# Altium footprint library WCAP-FTXX.PcbLib: 72 footprints (part 2 of 5)
Each footprint in its own frame and in the unit in brackets; x right, y up, seen from the top. Pads: shape width x height; smd on the part's side, far side on the other; paste and mask are expansions set on the pad; w line width, h text height; cw(c..) or ccw(c..) is an arc to the next point about the centre after c.
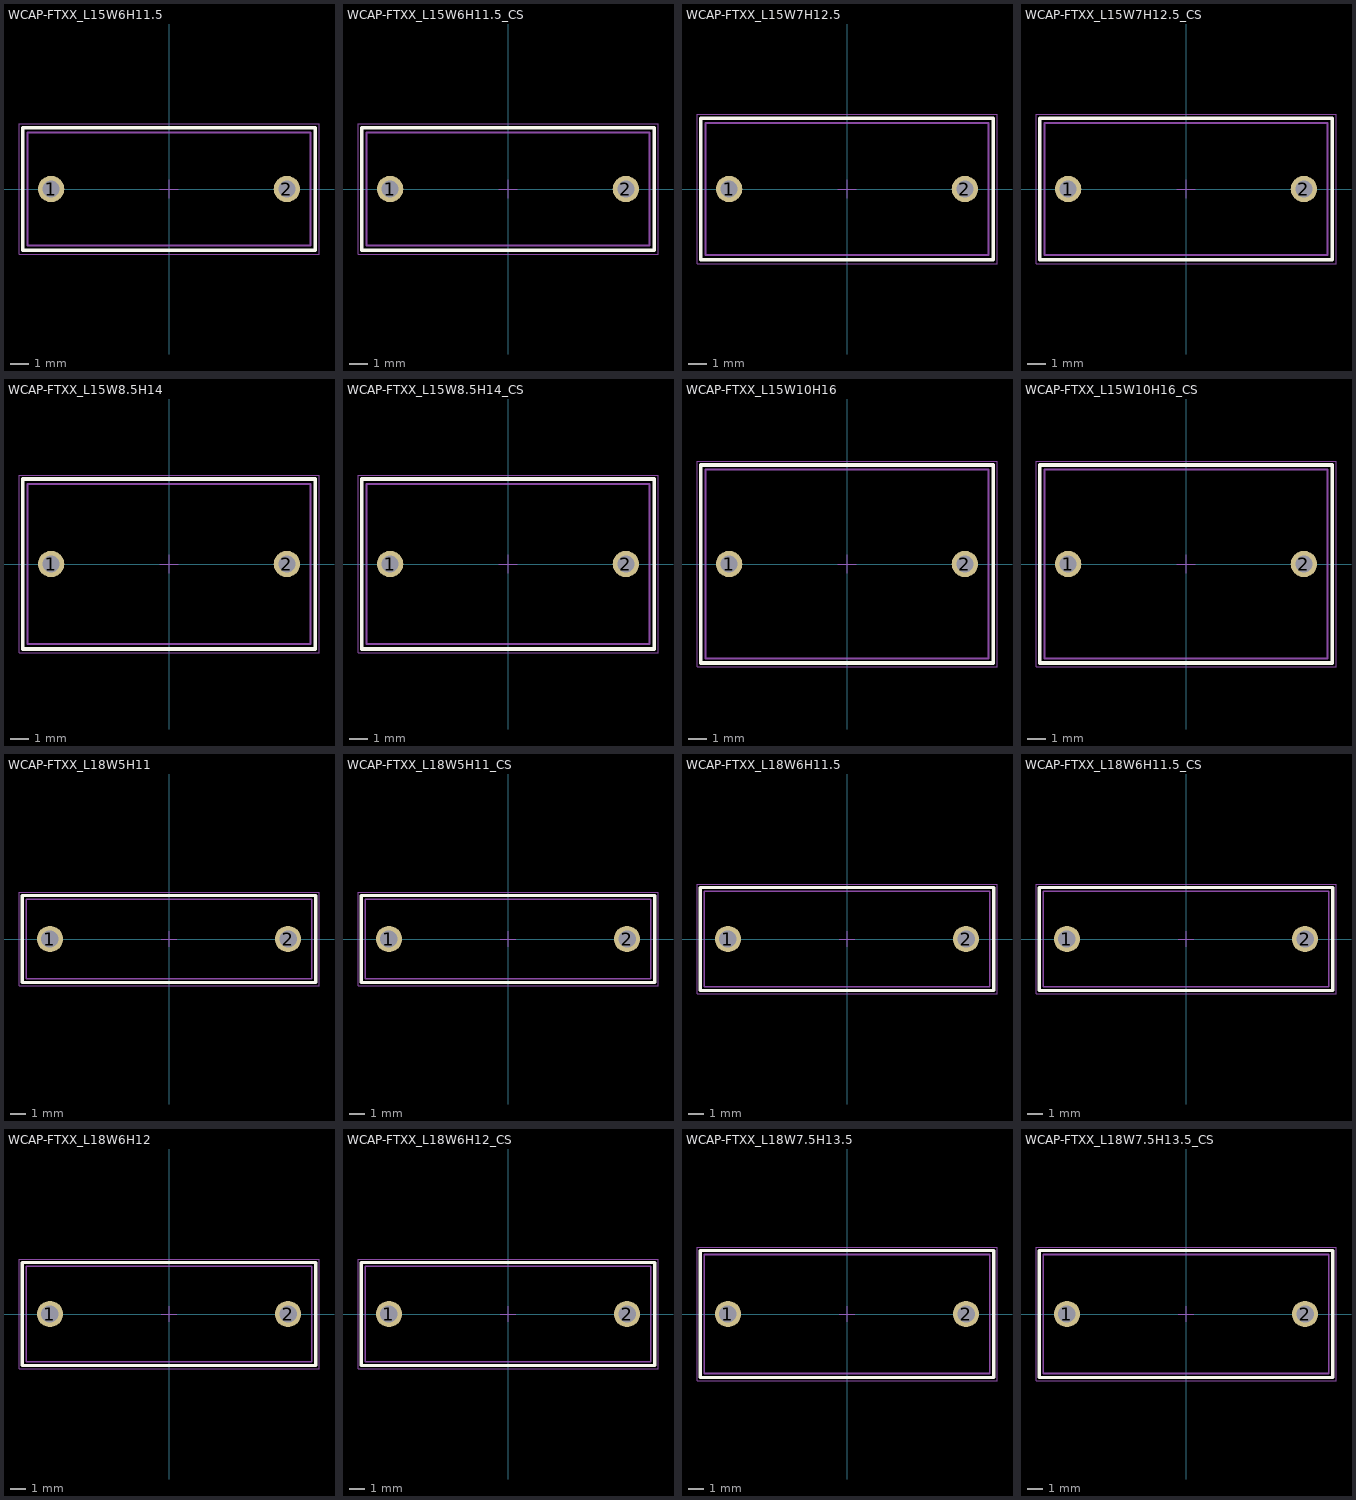
[diagram p1: the footprints below, top view; thin cyan lines are the x and y axes]

## WCAP-FTXX_L15W6H11.5 [mm] "Film Capacitors, 15x6x11.5mm"
height 11.5
pads (2):
  round 1.4 hole 0.9: 1(-6.25,0) 2(6.25,0)
Top Overlay:
  lines w0.2: -7.75,-3.25 -7.75,3.25 7.75,3.25 7.75,-3.25 -7.75,-3.25
Top Designator:
  text ".Designator" at -7.498,-0.5 h1.5
Top Component Outline:
  lines w0.1: -7.5,-3 -7.5,3 7.5,3 7.5,-3 -7.5,-3
Top Courtyard:
  lines w0.05: -7.95,-3.45 -7.95,3.45 7.95,3.45 7.95,-3.45 -7.95,-3.45
Top Component Center:
  lines w0.05: -0.5,0 0.5,0 ; 0,-0.5 0,0.5
3D body "12,5x15x11,5x6.stp": height 11.55, standoff -19.95, extent -7.5,-3 7.5,3

## WCAP-FTXX_L15W6H11.5_CS [mm] "Film Capacitors, 15x6x11.5mm"
height 11.5
pads (2):
  round 1.4 hole 0.9: 1(-6.25,0) 2(6.25,0)
Top Overlay:
  lines w0.2: -7.75,-3.25 -7.75,3.25 7.75,3.25 7.75,-3.25 -7.75,-3.25
Top Designator:
  text ".Designator" at -7.498,-0.5 h1.5
Top Component Outline:
  lines w0.1: -7.5,-3 -7.5,3 7.5,3 7.5,-3 -7.5,-3
Top Courtyard:
  lines w0.05: -7.95,-3.45 -7.95,3.45 7.95,3.45 7.95,-3.45 -7.95,-3.45
Top Component Center:
  lines w0.05: -0.5,0 0.5,0 ; 0,-0.5 0,0.5
3D body "12,5x15x11,5x6_CS.stp": height 11.55, standoff -3.95, extent -7.5,-3 7.5,3

## WCAP-FTXX_L15W7H12.5 [mm] "Film Capacitors, 15x7x12.5mm"
height 12.5
pads (2):
  round 1.4 hole 0.9: 1(-6.25,0) 2(6.25,0)
Top Overlay:
  lines w0.2: -7.75,-3.75 -7.75,3.75 7.75,3.75 7.75,-3.75 -7.75,-3.75
Top Designator:
  text ".Designator" at -7.498,-0.5 h1.5
Top Component Outline:
  lines w0.1: -7.5,-3.5 -7.5,3.5 7.5,3.5 7.5,-3.5 -7.5,-3.5
Top Courtyard:
  lines w0.05: -7.95,-3.95 -7.95,3.95 7.95,3.95 7.95,-3.95 -7.95,-3.95
Top Component Center:
  lines w0.05: -0.5,0 0.5,0 ; 0,-0.5 0,0.5
3D body "12,5x15x12,5x7.stp": height 12.55, standoff -19.95, extent -7.5,-3.5 7.5,3.5

## WCAP-FTXX_L15W7H12.5_CS [mm] "Film Capacitors, 15x7x12.5mm"
height 12.5
pads (2):
  round 1.4 hole 0.9: 1(-6.25,0) 2(6.25,0)
Top Overlay:
  lines w0.2: -7.75,-3.75 7.75,-3.75 7.75,3.75 -7.75,3.75 -7.75,-3.75
Top Designator:
  text ".Designator" at -7.498,-0.5 h1.5
Top Component Outline:
  lines w0.1: -7.5,-3.5 7.5,-3.5 7.5,3.5 -7.5,3.5 -7.5,-3.5
Top Courtyard:
  lines w0.05: -7.95,-3.95 7.95,-3.95 7.95,3.95 -7.95,3.95 -7.95,-3.95
Top Component Center:
  lines w0.05: -0.5,0 0.5,0 ; 0,-0.5 0,0.5
3D body "12,5x15x12,5x7_CS.stp": height 12.55, standoff -3.95, extent -7.5,-3.5 7.5,3.5

## WCAP-FTXX_L15W8.5H14 [mm] "Film Capacitors, 15x8.5x14mm"
height 14
pads (2):
  round 1.4 hole 0.9: 1(-6.25,0) 2(6.25,0)
Top Overlay:
  lines w0.2: -7.75,-4.5 -7.75,4.5 7.75,4.5 7.75,-4.5 -7.75,-4.5
Top Designator:
  text ".Designator" at -7.498,-0.5 h1.5
Top Component Outline:
  lines w0.1: -7.5,-4.25 7.5,-4.25 7.5,4.25 -7.5,4.25 -7.5,-4.25
Top Courtyard:
  lines w0.05: -7.95,-4.7 -7.95,4.7 7.95,4.7 7.95,-4.7 -7.95,-4.7
Top Component Center:
  lines w0.05: -0.5,0 0.5,0 ; 0,-0.5 0,0.5
3D body "12,5x15x14x8,5.stp": height 14.05, standoff -19.95, extent -7.5,-4.25 7.5,4.25

## WCAP-FTXX_L15W8.5H14_CS [mm] "Film Capacitors, 15x8.5x14mm"
height 14
pads (2):
  round 1.4 hole 0.9: 1(-6.25,0) 2(6.25,0)
Top Overlay:
  lines w0.2: -7.75,-4.5 -7.75,4.5 7.75,4.5 7.75,-4.5 -7.75,-4.5
Top Designator:
  text ".Designator" at -7.498,-0.5 h1.5
Top Component Outline:
  lines w0.1: -7.5,-4.25 7.5,-4.25 7.5,4.25 -7.5,4.25 -7.5,-4.25
Top Courtyard:
  lines w0.05: -7.95,-4.7 -7.95,4.7 7.95,4.7 7.95,-4.7 -7.95,-4.7
Top Component Center:
  lines w0.05: -0.5,0 0.5,0 ; 0,-0.5 0,0.5
3D body "12,5x15x14x8,5_CS.stp": height 14.05, standoff -3.95, extent -7.5,-4.25 7.5,4.25

## WCAP-FTXX_L15W10H16 [mm] "Film Capacitors, 15x10x16mm"
height 16
pads (2):
  round 1.4 hole 0.9: 1(-6.25,0) 2(6.25,0)
Top Overlay:
  lines w0.2: -7.75,-5.25 -7.75,5.25 7.75,5.25 7.75,-5.25 -7.75,-5.25
Top Designator:
  text ".Designator" at -7.498,-0.5 h1.5
Top Component Outline:
  lines w0.1: -7.5,-5 7.5,-5 7.5,5 -7.5,5 -7.5,-5
Top Courtyard:
  lines w0.05: -7.95,-5.45 -7.95,5.45 7.95,5.45 7.95,-5.45 -7.95,-5.45
Top Component Center:
  lines w0.05: -0.5,0 0.5,0 ; 0,-0.5 0,0.5
3D body "12,5x15x16x10.stp": height 16.05, standoff -19.95, extent -7.5,-5 7.5,5

## WCAP-FTXX_L15W10H16_CS [mm] "Film Capacitors, 15x10x16mm"
height 16
pads (2):
  round 1.4 hole 0.9: 1(-6.25,0) 2(6.25,0)
Top Overlay:
  lines w0.2: -7.75,-5.25 7.75,-5.25 7.75,5.25 -7.75,5.25 -7.75,-5.25
Top Designator:
  text ".Designator" at -7.498,-0.5 h1.5
Top Component Outline:
  lines w0.1: -7.5,-5 -7.5,5 7.5,5 7.5,-5 -7.5,-5
Top Courtyard:
  lines w0.05: -7.95,-5.45 7.95,-5.45 7.95,5.45 -7.95,5.45 -7.95,-5.45
Top Component Center:
  lines w0.05: -0.5,0 0.5,0 ; 0,-0.5 0,0.5
3D body "12,5x15x16x10_CS.stp": height 16.05, standoff -3.95, extent -7.5,-5 7.5,5

## WCAP-FTXX_L18W5H11 [mm] "Film Capacitors, 18x5x11mm"
height 11
pads (2):
  round 1.65 hole 1.1: 1(-7.5,0) 2(7.5,0)
Top Overlay:
  lines w0.2: -9.25,-2.75 -9.25,2.75 9.25,2.75 9.25,-2.75 -9.25,-2.75
Top Designator:
  text ".Designator" at -7.498,-0.5 h1.5
Top Component Outline:
  lines w0.1: -9,-2.5 -9,2.5 9,2.5 9,-2.5 -9,-2.5
Top Courtyard:
  lines w0.05: -9.45,-2.95 -9.45,2.95 9.45,2.95 9.45,-2.95 -9.45,-2.95
Top Component Center:
  lines w0.05: -0.5,0 0.5,0 ; 0,-0.5 0,0.5
3D body "15x18x11x5.stp": height 11.05, standoff -19.95, extent -9,-2.5 9,2.5

## WCAP-FTXX_L18W5H11_CS [mm] "Film Capacitors, 18x5x11mm"
height 11
pads (2):
  round 1.65 hole 1.1: 1(-7.5,0) 2(7.5,0)
Top Overlay:
  lines w0.2: -9.25,-2.75 9.25,-2.75 9.25,2.75 -9.25,2.75 -9.25,-2.75
Top Designator:
  text ".Designator" at -7.498,-0.5 h1.5
Top Component Outline:
  lines w0.1: -9,-2.5 9,-2.5 9,2.5 -9,2.5 -9,-2.5
Top Courtyard:
  lines w0.05: -9.45,-2.95 9.45,-2.95 9.45,2.95 -9.45,2.95 -9.45,-2.95
Top Component Center:
  lines w0.05: -0.5,0 0.5,0 ; 0,-0.5 0,0.5
3D body "15x18x11x5_CS.stp": height 11.05, standoff -3.95, extent -9,-2.5 9,2.5

## WCAP-FTXX_L18W6H11.5 [mm] "Film Capacitors, 18x6x11.5mm"
height 11.5
pads (2):
  round 1.65 hole 1.1: 1(-7.5,0) 2(7.5,0)
Top Overlay:
  lines w0.2: -9.25,-3.25 9.25,-3.25 9.25,3.25 -9.25,3.25 -9.25,-3.25
Top Designator:
  text ".Designator" at -7.498,-0.5 h1.5
Top Component Outline:
  lines w0.1: -9,-3 -9,3 9,3 9,-3 -9,-3
Top Courtyard:
  lines w0.05: -9.45,-3.45 9.45,-3.45 9.45,3.45 -9.45,3.45 -9.45,-3.45
Top Component Center:
  lines w0.05: -0.5,0 0.5,0 ; 0,-0.5 0,0.5
3D body "15x18x11,5x6.stp": height 11.55, standoff -19.95, extent -9,-3 9,3

## WCAP-FTXX_L18W6H11.5_CS [mm] "Film Capacitors, 18x6x11.5mm"
height 11.5
pads (2):
  round 1.65 hole 1.1: 1(-7.5,0) 2(7.5,0)
Top Overlay:
  lines w0.2: -9.25,-3.25 9.25,-3.25 9.25,3.25 -9.25,3.25 -9.25,-3.25
Top Designator:
  text ".Designator" at -7.498,-0.5 h1.5
Top Component Outline:
  lines w0.1: -9,-3 -9,3 9,3 9,-3 -9,-3
Top Courtyard:
  lines w0.05: -9.45,-3.45 9.45,-3.45 9.45,3.45 -9.45,3.45 -9.45,-3.45
Top Component Center:
  lines w0.05: -0.5,0 0.5,0 ; 0,-0.5 0,0.5
3D body "15x18x11,5x6_CS.stp": height 11.55, standoff -3.95, extent -9,-3 9,3

## WCAP-FTXX_L18W6H12 [mm] "Film Capacitors, 18x6x12mm"
height 12
pads (2):
  round 1.65 hole 1.1: 1(-7.5,0) 2(7.5,0)
Top Overlay:
  lines w0.2: -9.25,-3.25 -9.25,3.25 9.25,3.25 9.25,-3.25 -9.25,-3.25
Top Designator:
  text ".Designator" at -7.498,-0.5 h1.5
Top Component Outline:
  lines w0.1: -9,-3 9,-3 9,3 -9,3 -9,-3
Top Courtyard:
  lines w0.05: -9.45,-3.45 -9.45,3.45 9.45,3.45 9.45,-3.45 -9.45,-3.45
Top Component Center:
  lines w0.05: -0.5,0 0.5,0 ; 0,-0.5 0,0.5
3D body "15x18x12x6.stp": height 12.05, standoff -19.95, extent -9,-3 9,3

## WCAP-FTXX_L18W6H12_CS [mm] "Film Capacitors, 18x6x12mm"
height 12
pads (2):
  round 1.65 hole 1.1: 1(-7.5,0) 2(7.5,0)
Top Overlay:
  lines w0.2: -9.25,-3.25 9.25,-3.25 9.25,3.25 -9.25,3.25 -9.25,-3.25
Top Designator:
  text ".Designator" at -7.498,-0.5 h1.5
Top Component Outline:
  lines w0.1: -9,-3 -9,3 9,3 9,-3 -9,-3
Top Courtyard:
  lines w0.05: -9.45,-3.45 9.45,-3.45 9.45,3.45 -9.45,3.45 -9.45,-3.45
Top Component Center:
  lines w0.05: -0.5,0 0.5,0 ; 0,-0.5 0,0.5
3D body "15x18x12x6_CS.stp": height 12.05, standoff -3.95, extent -9,-3 9,3

## WCAP-FTXX_L18W7.5H13.5 [mm] "Film Capacitors, 18x7.5x13.5mm"
height 13.5
pads (2):
  round 1.65 hole 1.1: 1(-7.5,0) 2(7.5,0)
Top Overlay:
  lines w0.2: -9.25,-4 -9.25,4 9.25,4 9.25,-4 -9.25,-4
Top Designator:
  text ".Designator" at -7.498,-0.5 h1.5
Top Component Outline:
  lines w0.1: -9,-3.75 -9,3.75 9,3.75 9,-3.75 -9,-3.75
Top Courtyard:
  lines w0.05: -9.45,-4.2 -9.45,4.2 9.45,4.2 9.45,-4.2 -9.45,-4.2
Top Component Center:
  lines w0.05: -0.5,0 0.5,0 ; 0,-0.5 0,0.5
3D body "15x18x13,5x7,5.stp": height 13.55, standoff -19.95, extent -9,-3.75 9,3.75

## WCAP-FTXX_L18W7.5H13.5_CS [mm] "Film Capacitors, 18x7.5x13.5mm"
height 13.5
pads (2):
  round 1.65 hole 1.1: 1(-7.5,0) 2(7.5,0)
Top Overlay:
  lines w0.2: -9.25,-4 9.25,-4 9.25,4 -9.25,4 -9.25,-4
Top Designator:
  text ".Designator" at -7.498,-0.5 h1.5
Top Component Outline:
  lines w0.1: -9,-3.75 9,-3.75 9,3.75 -9,3.75 -9,-3.75
Top Courtyard:
  lines w0.05: -9.45,-4.2 9.45,-4.2 9.45,4.2 -9.45,4.2 -9.45,-4.2
Top Component Center:
  lines w0.05: -0.5,0 0.5,0 ; 0,-0.5 0,0.5
3D body "15x18x13,5x7,5_CS.stp": height 13.55, standoff -3.95, extent -9,-3.75 9,3.75